# EAGLE library part TE_5-104652-1_RCPT-10POS (library BMS (v6))
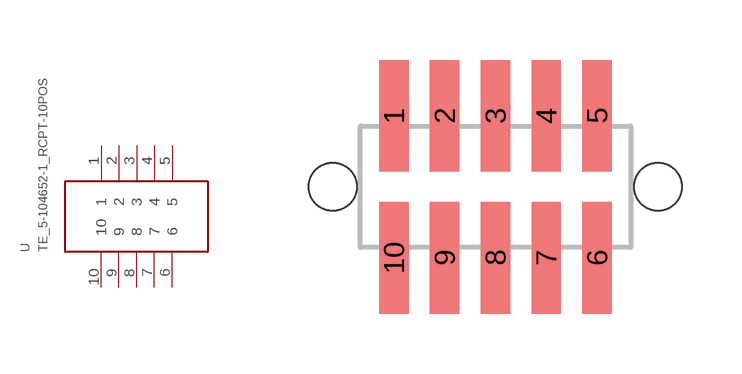
[diagram p3: symbol with the pads of TE_10POS_B2B_HEADER_5-104652-1; footprint TE_10POS_B2B_HEADER_5-104652-1]

Designator prefix -

## TE_5-104652-1_RCPT-10POS  [TE_10POS_B2B_HEADER_5-104652-1]
1  1
2  2
3  3
4  4
5  5
6  6
7  7
8  8
9  9
10  10

## Footprint TE_10POS_B2B_HEADER_5-104652-1 (pad centres in mm)
smd 0.737 x 2.794: 1 -2.54,1.778; 2 -1.27,1.778; 3 0,1.778; 4 1.27,1.778; 5 2.54,1.778; 6 2.54,-1.778; 7 1.27,-1.778; 8 0,-1.778; 9 -1.27,-1.778; 10 -2.54,-1.778
hole 1.194 at 4.064,0
hole 1.194 at -4.064,0